# EAGLE library part CAT6500 (library on-semi)
POWER SELECTOR SWITCH 3A
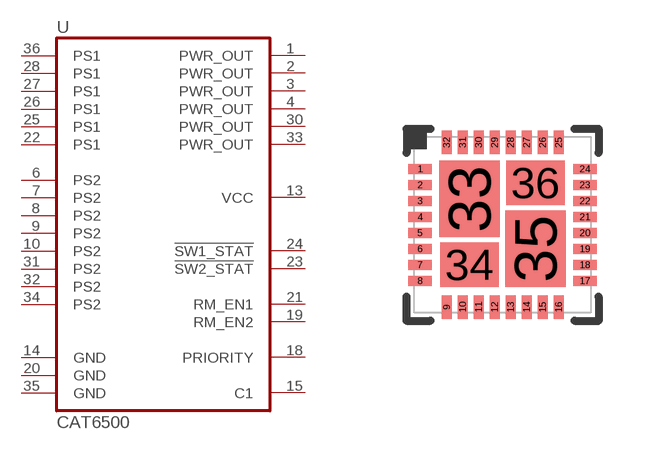
[diagram p2: symbol with the pads of WQFN32-485; footprint WQFN32-485]

Designator prefix U

## CAT6500  [WQFN32-485]
1  PWR_OUT
2  PWR_OUT
3  PWR_OUT
4  PWR_OUT
6  PS2
7  PS2
8  PS2
9  PS2
10  PS2
13  VCC  pwr
14  GND  pwr
15  C1  in
18  PRIORITY  in
19  RM_EN2  in
20  GND  pwr
21  RM_EN1  in
22  PS1
23  !SW2_STAT!  oc
24  !SW1_STAT!  oc
25  PS1
26  PS1
27  PS1
28  PS1
30  PWR_OUT
31  PS2
32  PS2
33  PWR_OUT
34  PS2
35  GND  pwr
36  PS1

## Footprint WQFN32-485 (pad centres in mm)
WQFN32 body 4.4 x 4.4 mm, pitch 0.4 mm CASE 485BN−01
smd 0.58 x 0.25: 1 -2.06,1.4; 2 -2.06,1; 3 -2.06,0.6; 4 -2.06,0.2; 5 -2.06,-0.2; 6 -2.06,-0.6; 7 -2.06,-1; 8 -2.06,-1.4; 17 2.06,-1.4; 18 2.06,-1; 19 2.06,-0.6; 20 2.06,-0.2; 21 2.06,0.2; 22 2.06,0.6; 23 2.06,1; 24 2.06,1.4
smd 0.25 x 0.58: 9 -1.4,-2.06; 10 -1,-2.06; 11 -0.6,-2.06; 12 -0.2,-2.06; 13 0.2,-2.06; 14 0.6,-2.06; 15 1,-2.06; 16 1.4,-2.06; 25 1.4,2.06; 26 1,2.06; 27 0.6,2.06; 28 0.2,2.06; 29 -0.2,2.06; 30 -0.6,2.06; 31 -1,2.06; 32 -1.4,2.06
smd 1.52 x 1.92: 33 -0.825,0.65; 35 0.825,-0.6
smd 1.47 x 1.12: 34 -0.825,-1; 36 0.825,1.05